# Altium schematic symbol library 10114830-11103LF.SchLib: 1 symbol
Pins are listed as number, name and electrical type; pins without a type are passive.

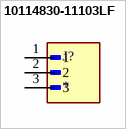
[diagram p0: symbol 10114830-11103LF]

## 10114830-11103LF
designator J?
MP: 10114830-11103LF; Package: None; Price: None; Value: *; Availability: Unavailable
footprint AMPHENOL_10114830-11103LF
pins: 1, 2, 3